# Altium schematic symbol library Schlib2.SchLib: 1 symbol
Pins are listed as number, name and electrical type; pins without a type are passive.

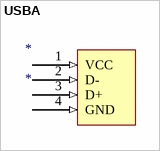
[diagram p0: symbol USBA]

## USBA
designator *
pins: 1 VCC (in), 2 D- (in), 3 D+ (in), 4 GND (in)